# Altium schematic symbol library SPANNING_CONVERTERS.SchLib: 4 symbols
Pins are listed as number, name and electrical type; pins without a type are passive.

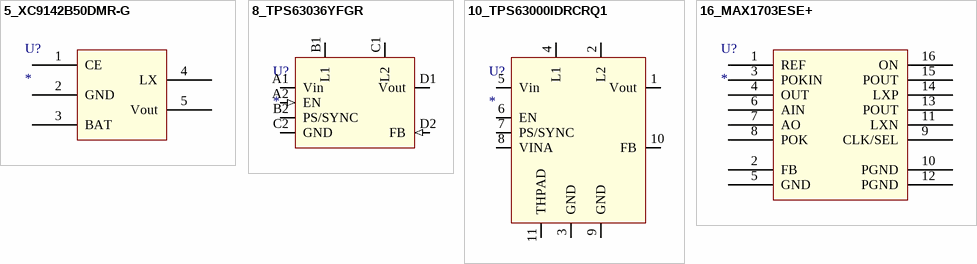
[diagram p0: symbols 5_XC9142B50DMR-G to 16_MAX1703ESE+]

## 5_XC9142B50DMR-G
designator U?
DC-DC Boost Converter, 5.0V Fixed Out, 0.8A, Synch, 3MHz
pins: 1 CE, 2 GND, 3 BAT, 4 LX, 5 Vout

## 8_TPS63036YFGR
designator U?
SMPS BUCK/BOOST 1.8V -5.5V input, 1.2V-5.5V + 1A output
footprint DSBGA-8_TPS63036YFGR (SMPS BUCK/BOOST 1.8V -5.5V input, 1.2V-5.5V + 1A output)
pins: A1 Vin (power), A2 EN (in), B1 L1, B2 PS/SYNC, C1 L2, C2 GND (power), D1 Vout (power), D2 FB (in)

## 10_TPS63000IDRCRQ1
designator U?
SMPS BUCK/BOOST, INPUT  1.8-5.5V, OUTPUT: 1.2-5.5V + 1.8A
footprint VSON-10_TPS63000IDRCRQ1
pins: 1 Vout, 2 L2, 3 GND, 4 L1, 5 Vin, 6 EN, 7 PS/SYNC, 8 VINA, 9 GND, 10 FB, 11 THPAD

## 16_MAX1703ESE+
designator U?
DC-DC Boost Regulator, 0.7V-5.5V Vin, 1.5A, 1-3 cell
pins: 1 REF (power), 2 FB (power), 3 POKIN (power), 4 OUT (power), 5 GND (power), 6 AIN (power), 7 AO (power), 8 POK (power), 9 CLK/SEL (power), 10 PGND (power), 11 LXN (power), 12 PGND (power), 13 POUT (power), 14 LXP (power), 15 POUT (power), 16 ON (power)